# EAGLE library part AM6254ATCGHAALW (library AM6254ATCGHAALW)
Microprocessors - MPU Human-machine-interaction SoC with Arm Cortex-A53-based edge AI and full-HD dual display Source: Datasheet <https://www.ti.com/lit/ds/symlink/am623.pdf?HQS=dis-mous-null-mousermode-dsf-pf-null-wwe&ts=1699949527929&ref_url=https%3A%2F%2Fwww.mouser.jp%2F>
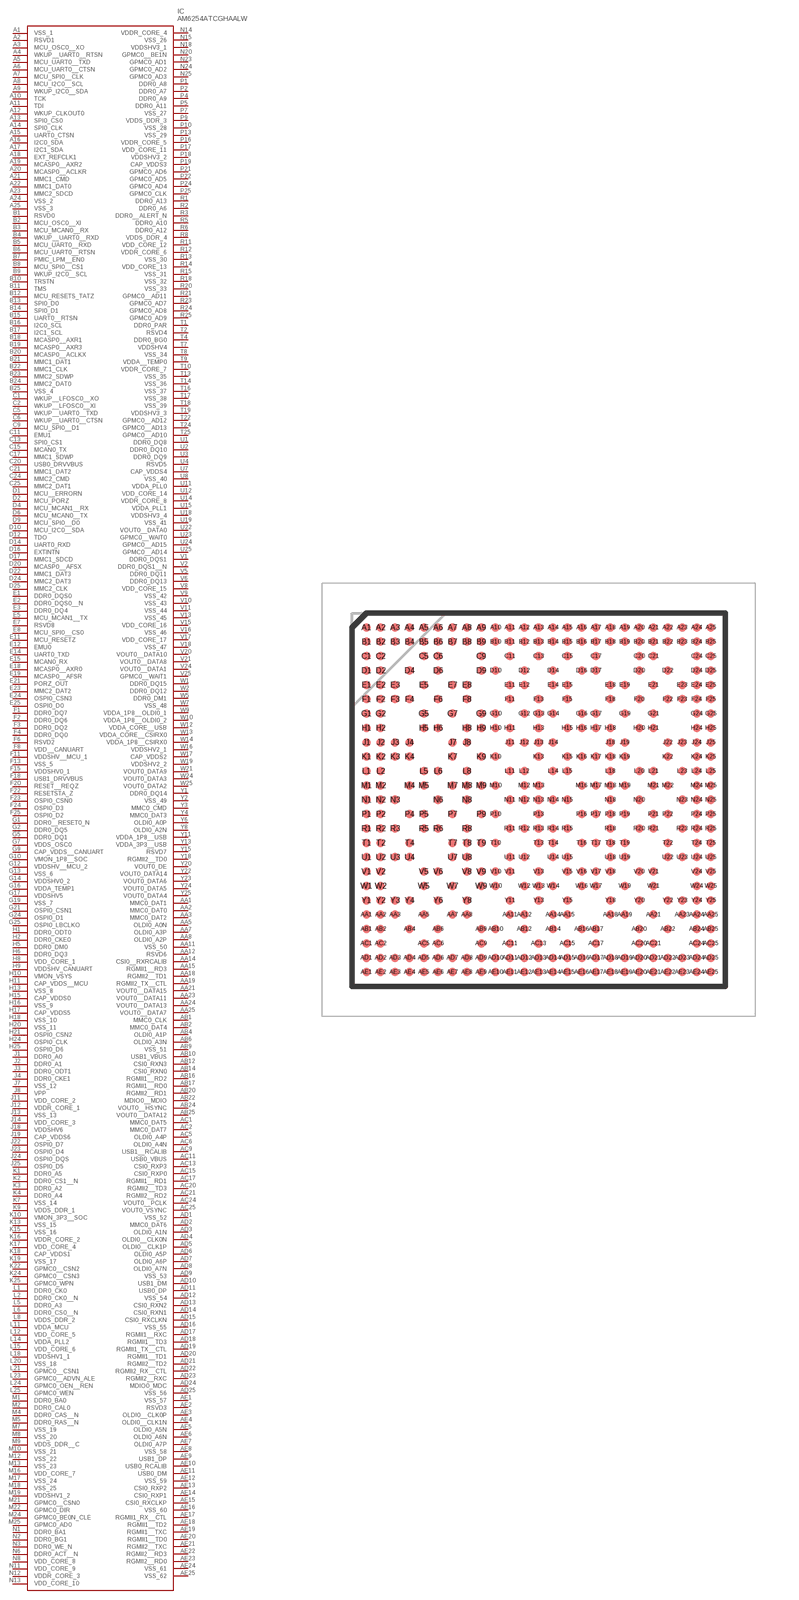
[diagram p0: symbol with the pads of BGA425C50P25X25_1300X1300X89; footprint BGA425C50P25X25_1300X1300X89]

Designator prefix IC

## AM6254ATCGHAALW (Arrow_Part_Number: AM6254ATCGHAALW; Arrow_Price-Stock: https://www.arrow.com/en/products/am6254atcghaalw/texas-instruments?utm_currency=USD&region=nac; Description: Microprocessors - MPU Human-machine-interaction SoC with Arm Cortex-A53-based edge AI and full-HD dual display; Height: 0.89mm; Manufacturer_Name: Texas Instruments; Manufacturer_Part_Number: AM6254ATCGHAALW; Mouser_Part_Number: 595-AM6254ATCGHAALW; Mouser_Price-Stock: https://www.mouser.co.uk/ProductDetail/Texas-Instruments/AM6254ATCGHAALW?qs=3Rah4i%252BhyCEL0QsorpBJwA%3D%3D)  [BGA425C50P25X25_1300X1300X89]
A1  VSS_1
A2  RSVD1
A3  MCU_OSC0__XO
A4  WKUP__UART0__RTSN
A5  MCU_UART0__TXD
A6  MCU_UART0__CTSN
A7  MCU_SPI0__CLK
A8  MCU_I2C0__SCL
A9  WKUP_I2C0__SDA
A10  TCK
A11  TDI
A12  WKUP_CLKOUT0
A13  SPI0_CS0
A14  SPI0_CLK
A15  UART0_CTSN
A16  I2C0_SDA
A17  I2C1_SDA
A18  EXT_REFCLK1
A19  MCASP0__AXR2
A20  MCASP0__ACLKR
A21  MMC1_CMD
A22  MMC1_DAT0
A23  MMC2_SDCD
A24  VSS_2
A25  VSS_3
AA1  MMC0_DAT1
AA2  MMC0_DAT0
AA3  MMC0_DAT2
AA5  OLDI0_A0N
AA7  OLDI0_A3P
AA8  OLDI0_A2P
AA11  VSS_50
AA12  RSVD6
AA14  CSI0__RXRCALIB
AA15  RGMII1__RD3
AA18  RGMII2__TD1
AA19  RGMII2_TX__CTL
AA21  VOUT0__DATA15
AA23  VOUT0__DATA11
AA24  VOUT0__DATA13
AA25  VOUT0__DATA7
AB1  MMC0_CLK
AB2  MMC0_DAT4
AB4  OLDI0_A1P
AB6  OLDI0_A3N
AB9  VSS_51
AB10  USB1_VBUS
AB12  CSI0_RXN3
AB14  CSI0_RXN0
AB16  RGMII1__RD2
AB17  RGMII1__RD0
AB20  RGMII2__RD1
AB22  MDIO0__MDIO
AB24  VOUT0__HSYNC
AB25  VOUT0__DATA12
AC1  MMC0_DAT5
AC2  MMC0_DAT7
AC5  OLDI0_A4P
AC6  OLDI0_A4N
AC9  USB1__RCALIB
AC11  USB0_VBUS
AC13  CSI0_RXP3
AC15  CSI0_RXP0
AC17  RGMII1__RD1
AC20  RGMII2__TD3
AC21  RGMII2__RD2
AC24  VOUT0__PCLK
AC25  VOUT0_VSYNC
AD1  VSS_52
AD2  MMC0_DAT6
AD3  OLDI0_A1N
AD4  OLDI0__CLK0N
AD5  OLDI0__CLK1P
AD6  OLDI0_A5P
AD7  OLDI0_A6P
AD8  OLDI0_A7N
AD9  VSS_53
AD10  USB1_DM
AD11  USB0_DP
AD12  VSS_54
AD13  CSI0_RXN2
AD14  CSI0_RXN1
AD15  CSI0_RXCLKN
AD16  VSS_55
AD17  RGMII1__RXC
AD18  RGMII1__TD3
AD19  RGMII1_TX__CTL
AD20  RGMII1__TD1
AD21  RGMII2__TD2
AD22  RGMII2_RX__CTL
AD23  RGMII2__RXC
AD24  MDIO0_MDC
AD25  VSS_56
AE1  VSS_57
AE2  RSVD3
AE3  OLDI0__CLK0P
AE4  OLDI0__CLK1N
AE5  OLDI0_A5N
AE6  OLDI0_A6N
AE7  OLDI0_A7P
AE8  VSS_58
AE9  USB1_DP
AE10  USB0_RCALIB
AE11  USB0_DM
AE12  VSS_59
AE13  CSI0_RXP2
AE14  CSI0_RXP1
AE15  CSI0_RXCLKP
AE16  VSS_60
AE17  RGMII1_RX__CTL
AE18  RGMII1__TD2
AE19  RGMII1__TXC
AE20  RGMII1__TD0
AE21  RGMII2__TXC
AE22  RGMII2__RD3
AE23  RGMII2__RD0
AE24  VSS_61
AE25  VSS_62
B1  RSVD0
B2  MCU_OSC0__XI
B3  MCU_MCAN0__RX
B4  WKUP__UART0__RXD
B5  MCU_UART0__RXD
B6  MCU_UART0__RTSN
B7  PMIC_LPM__EN0
B8  MCU_SPI0__CS1
B9  WKUP_I2C0__SCL
B10  TRSTN
B11  TMS
B12  MCU_RESETS_TATZ
B13  SPI0_D0
B14  SPI0_D1
B15  UART0__RTSN
B16  I2C0_SCL
B17  I2C1_SCL
B18  MCASP0__AXR1
B19  MCASP0__AXR3
B20  MCASP0__ACLKX
B21  MMC1_DAT1
B22  MMC1_CLK
B23  MMC2_SDWP
B24  MMC2_DAT0
B25  VSS_4
C1  WKUP__LFOSC0__XO
C2  WKUP__LFOSC0__XI
C5  WKUP__UART0__TXD
C6  WKUP__UART0__CTSN
C9  MCU_SPI0__D1
C11  EMU1
C13  SPI0_CS1
C15  MCAN0_TX
C17  MMC1_SDWP
C20  USB0_DRVVBUS
C21  MMC1_DAT2
C24  MMC2_CMD
C25  MMC2_DAT1
D1  MCU__ERRORN
D2  MCU_PORZ
D4  MCU_MCAN1__RX
D6  MCU_MCAN0__TX
D9  MCU_SPI0__D0
D10  MCU_I2C0__SDA
D12  TDO
D14  UART0_RXD
D16  EXTINTN
D17  MMC1_SDCD
D20  MCASP0__AFSX
D22  MMC1_DAT3
D24  MMC2_DAT3
D25  MMC2_CLK
E1  DDR0_DQS0
E2  DDR0_DQS0__N
E3  DDR0_DQ4
E5  MCU_MCAN1__TX
E7  RSVD8
E8  MCU_SPI0__CS0
E11  MCU_RESETZ
E12  EMU0
E14  UART0_TXD
E15  MCAN0_RX
E18  MCASP0__AXR0
E19  MCASP0__AFSR
E21  PORZ_OUT
E23  MMC2_DAT2
E24  OSPI0_CSN3
E25  OSPI0_D0
F1  DDR0_DQ7
F2  DDR0_DQ6
F3  DDR0_DQ2
F4  DDR0_DQ0
F6  RSVD2
F8  VDD__CANUART
F11  VDDSHV__MCU_1
F13  VSS_5
F15  VDDSHV0_1
F18  USB1_DRVVBUS
F20  RESET__REQZ
F22  RESETSTA_Z
F23  OSPI0_CSN0
F24  OSPI0_D3
F25  OSPI0_D2
G1  DDR0__RESET0_N
G2  DDR0_DQ5
G5  DDR0_DQ1
G7  VDDS_OSC0
G9  CAP_VDDS__CANUART
G10  VMON_1P8__SOC
G12  VDDSHV__MCU_2
G13  VSS_6
G14  VDDSHV0_2
G16  VDDA_TEMP1
G17  VDDSHV5
G19  VSS_7
G21  OSPI0_CSN1
G24  OSPI0_D1
G25  OSPI0_LBCLKO
H1  DDR0_ODT0
H2  DDR0_CKE0
H5  DDR0_DM0
H6  DDR0_DQ3
H8  VDD_CORE_1
H9  VDDSHV_CANUART
H10  VMON_VSYS
H11  CAP_VDDS__MCU
H13  VSS_8
H15  CAP_VDDS0
H16  VSS_9
H17  CAP_VDDS5
H18  VSS_10
H20  VSS_11
H21  OSPI0_CSN2
H24  OSPI0_CLK
H25  OSPI0_D6
J1  DDR0_A0
J2  DDR0_A1
J3  DDR0_ODT1
J4  DDR0_CKE1
J7  VSS_12
J8  VPP
J11  VDD_CORE_2
J12  VDDR_CORE_1
J13  VSS_13
J14  VDD_CORE_3
J18  VDDSHV6
J19  CAP_VDDS6
J22  OSPI0_D7
J23  OSPI0_D4
J24  OSPI0_DQS
J25  OSPI0_D5
K1  DDR0_A5
K2  DDR0_CS1__N
K3  DDR0_A2
K4  DDR0_A4
K7  VSS_14
K9  VDDS_DDR_1
K10  VMON_3P3__SOC
K13  VSS_15
K15  VSS_16
K16  VDDR_CORE_2
K17  VDD_CORE_4
K18  CAP_VDDS1
K19  VSS_17
K22  GPMC0__CSN2
K24  GPMC0__CSN3
K25  GPMC0_WPN
L1  DDR0_CK0
L2  DDR0_CK0__N
L5  DDR0_A3
L6  DDR0_CS0__N
L8  VDDS_DDR_2
L11  VDDA_MCU
L12  VDD_CORE_5
L14  VDDA_PLL2
L15  VDD_CORE_6
L18  VDDSHV1_1
L20  VSS_18
L21  GPMC0__CSN1
L23  GPMC0__ADVN_ALE
L24  GPMC0_OEN__REN
L25  GPMC0_WEN
M1  DDR0_BA0
M2  DDR0_CAL0
M4  DDR0_CAS__N
M5  DDR0_RAS__N
M7  VSS_19
M8  VSS_20
M9  VDDS_DDR__C
M10  VSS_21
M12  VSS_22
M13  VSS_23
M16  VDD_CORE_7
M17  VSS_24
M18  VSS_25
M19  VDDSHV1_2
M21  GPMC0__CSN0
M22  GPMC0_DIR
M24  GPMC0_BE0N_CLE
M25  GPMC0_AD0
N1  DDR0_BA1
N2  DDR0_BG1
N3  DDR0_WE_N
N6  DDR0_ACT__N
N8  VDD_CORE_8
N11  VDD_CORE_9
N12  VDDR_CORE_3
N13  VDD_CORE_10
N14  VDDR_CORE_4
N15  VSS_26
N18  VDDSHV3_1
N20  GPMC0__BE1N
N23  GPMC0_AD1
N24  GPMC0_AD2
N25  GPMC0_AD3
P1  DDR0_A8
P2  DDR0_A7
P4  DDR0_A9
P5  DDR0_A11
P7  VSS_27
P9  VDDS_DDR_3
P10  VSS_28
P13  VSS_29
P16  VDDR_CORE_5
P17  VDD_CORE_11
P18  VDDSHV3_2
P19  CAP_VDDS3
P21  GPMC0_AD6
P22  GPMC0_AD5
P24  GPMC0_AD4
P25  GPMC0_CLK
R1  DDR0_A13
R2  DDR0_A6
R3  DDR0__ALERT_N
R5  DDR0_A10
R6  DDR0_A12
R8  VDDS_DDR_4
R11  VDD_CORE_12
R12  VDDR_CORE_6
R13  VSS_30
R14  VDD_CORE_13
R15  VSS_31
R18  VSS_32
R20  VSS_33
R21  GPMC0__AD11
R23  GPMC0_AD7
R24  GPMC0_AD8
R25  GPMC0_AD9
T1  DDR0_PAR
T2  RSVD4
T4  DDR0_BG0
T7  VDDSHV4
T8  VSS_34
T9  VDDA__TEMP0
T10  VDDR_CORE_7
T13  VSS_35
T14  VSS_36
T16  VSS_37
T17  VSS_38
T18  VSS_39
T19  VDDSHV3_3
T22  GPMC0__AD12
T24  GPMC0__AD13
T25  GPMC0__AD10
U1  DDR0_DQ8
U2  DDR0_DQ10
U3  DDR0_DQ9
U4  RSVD5
U7  CAP_VDDS4
U8  VSS_40
U11  VDDA_PLL0
U12  VDD_CORE_14
U14  VDDR_CORE_8
U15  VDDA_PLL1
U18  VDDSHV3_4
U19  VSS_41
U22  VOUT0__DATA0
U23  GPMC0__WAIT0
U24  GPMC0__AD15
U25  GPMC0__AD14
V1  DDR0_DQS1
V2  DDR0_DQS1__N
V5  DDR0_DQ11
V6  DDR0_DQ13
V8  VDD_CORE_15
V9  VSS_42
V10  VSS_43
V11  VSS_44
V13  VSS_45
V15  VDD_CORE_16
V16  VSS_46
V17  VDD_CORE_17
V18  VSS_47
V20  VOUT0__DATA10
V21  VOUT0__DATA8
V24  VOUT0__DATA1
V25  GPMC0__WAIT1
W1  DDR0_DQ15
W2  DDR0_DQ12
W5  DDR0_DM1
W7  VSS_48
W9  VDDA_1P8__OLDI0_1
W10  VDDA_1P8__OLDI0_2
W12  VDDA_CORE__USB
W13  VDDA_CORE__CSIRX0
W14  VDDA_1P8__CSIRX0
W16  VDDSHV2_1
W17  CAP_VDDS2
W19  VDDSHV2_2
W21  VOUT0_DATA9
W24  VOUT0_DATA3
W25  VOUT0_DATA2
Y1  DDR0_DQ14
Y2  VSS_49
Y3  MMC0_CMD
Y4  MMC0_DAT3
Y6  OLDI0_A0P
Y8  OLDI0_A2N
Y11  VDDA_1P8__USB
Y13  VDDA_3P3__USB
Y15  RSVD7
Y18  RGMII2__TD0
Y20  VOUT0_DE
Y22  VOUT0_DATA14
Y23  VOUT0_DATA6
Y24  VOUT0_DATA5
Y25  VOUT0_DATA4

## Footprint BGA425C50P25X25_1300X1300X89 (pad centres in mm)
ALW0425A
smd 0.29 x 0.29: A1 -6,6; A2 -5.5,6; A3 -5,6; A4 -4.5,6; A5 -4,6; A6 -3.5,6; A7 -3,6; A8 -2.5,6; A9 -2,6; A10 -1.5,6; A11 -1,6; A12 -0.5,6; A13 0,6; A14 0.5,6; A15 1,6; A16 1.5,6; A17 2,6; A18 2.5,6; A19 3,6; A20 3.5,6; A21 4,6; A22 4.5,6; A23 5,6; A24 5.5,6; A25 6,6; AA1 -6,-4; AA2 -5.5,-4; AA3 -5,-4; AA5 -4,-4; AA7 -3,-4; AA8 -2.5,-4; AA11 -1,-4; AA12 -0.5,-4; AA14 0.5,-4; AA15 1,-4; AA18 2.5,-4; AA19 3,-4; AA21 4,-4; AA23 5,-4; AA24 5.5,-4; AA25 6,-4; AB1 -6,-4.5; AB2 -5.5,-4.5; AB4 -4.5,-4.5; AB6 -3.5,-4.5; AB9 -2,-4.5; AB10 -1.5,-4.5; AB12 -0.5,-4.5; AB14 0.5,-4.5; AB16 1.5,-4.5; AB17 2,-4.5; AB20 3.5,-4.5; AB22 4.5,-4.5; AB24 5.5,-4.5; AB25 6,-4.5; AC1 -6,-5; AC2 -5.5,-5; AC5 -4,-5; AC6 -3.5,-5; AC9 -2,-5; AC11 -1,-5; AC13 0,-5; AC15 1,-5; AC17 2,-5; AC20 3.5,-5; AC21 4,-5; AC24 5.5,-5; AC25 6,-5; AD1 -6,-5.5; AD2 -5.5,-5.5; AD3 -5,-5.5; AD4 -4.5,-5.5; AD5 -4,-5.5; AD6 -3.5,-5.5; AD7 -3,-5.5; AD8 -2.5,-5.5; AD9 -2,-5.5; AD10 -1.5,-5.5; AD11 -1,-5.5; AD12 -0.5,-5.5; AD13 0,-5.5; AD14 0.5,-5.5; AD15 1,-5.5; AD16 1.5,-5.5; AD17 2,-5.5; AD18 2.5,-5.5; AD19 3,-5.5; AD20 3.5,-5.5; AD21 4,-5.5; AD22 4.5,-5.5; AD23 5,-5.5; AD24 5.5,-5.5; AD25 6,-5.5; AE1 -6,-6; AE2 -5.5,-6; AE3 -5,-6; AE4 -4.5,-6; AE5 -4,-6; AE6 -3.5,-6; AE7 -3,-6; AE8 -2.5,-6; AE9 -2,-6; AE10 -1.5,-6; AE11 -1,-6; AE12 -0.5,-6; AE13 0,-6; AE14 0.5,-6; AE15 1,-6; AE16 1.5,-6; AE17 2,-6; AE18 2.5,-6; AE19 3,-6; AE20 3.5,-6; AE21 4,-6; AE22 4.5,-6; AE23 5,-6; AE24 5.5,-6; AE25 6,-6; B1 -6,5.5; B2 -5.5,5.5; B3 -5,5.5; B4 -4.5,5.5; B5 -4,5.5; B6 -3.5,5.5; B7 -3,5.5; B8 -2.5,5.5; B9 -2,5.5; B10 -1.5,5.5; B11 -1,5.5; B12 -0.5,5.5; B13 0,5.5; B14 0.5,5.5; B15 1,5.5; B16 1.5,5.5; B17 2,5.5; B18 2.5,5.5; B19 3,5.5; B20 3.5,5.5; B21 4,5.5; B22 4.5,5.5; B23 5,5.5; B24 5.5,5.5; B25 6,5.5; C1 -6,5; C2 -5.5,5; C5 -4,5; C6 -3.5,5; C9 -2,5; C11 -1,5; C13 0,5; C15 1,5; C17 2,5; C20 3.5,5; C21 4,5; C24 5.5,5; C25 6,5; D1 -6,4.5; D2 -5.5,4.5; D4 -4.5,4.5; D6 -3.5,4.5; D9 -2,4.5; D10 -1.5,4.5; D12 -0.5,4.5; D14 0.5,4.5; D16 1.5,4.5; D17 2,4.5; D20 3.5,4.5; D22 4.5,4.5; D24 5.5,4.5; D25 6,4.5; E1 -6,4; E2 -5.5,4; E3 -5,4; E5 -4,4; E7 -3,4; E8 -2.5,4; E11 -1,4; E12 -0.5,4; E14 0.5,4; E15 1,4; E18 2.5,4; E19 3,4; E21 4,4; E23 5,4; E24 5.5,4; E25 6,4; F1 -6,3.5; F2 -5.5,3.5; F3 -5,3.5; F4 -4.5,3.5; F6 -3.5,3.5; F8 -2.5,3.5; F11 -1,3.5; F13 0,3.5; F15 1,3.5; F18 2.5,3.5; F20 3.5,3.5; F22 4.5,3.5; F23 5,3.5; F24 5.5,3.5; F25 6,3.5; G1 -6,3; G2 -5.5,3; G5 -4,3; G7 -3,3; G9 -2,3; G10 -1.5,3; G12 -0.5,3; G13 0,3; G14 0.5,3; G16 1.5,3; G17 2,3; G19 3,3; G21 4,3; G24 5.5,3; G25 6,3; H1 -6,2.5; H2 -5.5,2.5; H5 -4,2.5; H6 -3.5,2.5; H8 -2.5,2.5; H9 -2,2.5; H10 -1.5,2.5; H11 -1,2.5; H13 0,2.5; H15 1,2.5; H16 1.5,2.5; H17 2,2.5; H18 2.5,2.5; H20 3.5,2.5; H21 4,2.5; H24 5.5,2.5; H25 6,2.5; J1 -6,2; J2 -5.5,2; J3 -5,2; J4 -4.5,2; J7 -3,2; J8 -2.5,2; J11 -1,2; J12 -0.5,2; J13 0,2; J14 0.5,2; J18 2.5,2; J19 3,2; J22 4.5,2; J23 5,2; J24 5.5,2; J25 6,2; K1 -6,1.5; K2 -5.5,1.5; K3 -5,1.5; K4 -4.5,1.5; K7 -3,1.5; K9 -2,1.5; K10 -1.5,1.5; K13 0,1.5; K15 1,1.5; K16 1.5,1.5; K17 2,1.5; K18 2.5,1.5; K19 3,1.5; K22 4.5,1.5; K24 5.5,1.5; K25 6,1.5; L1 -6,1; L2 -5.5,1; L5 -4,1; L6 -3.5,1; L8 -2.5,1; L11 -1,1; L12 -0.5,1; L14 0.5,1; L15 1,1; L18 2.5,1; L20 3.5,1; L21 4,1; L23 5,1; L24 5.5,1; L25 6,1; M1 -6,0.5; M2 -5.5,0.5; M4 -4.5,0.5; M5 -4,0.5; M7 -3,0.5; M8 -2.5,0.5; M9 -2,0.5; M10 -1.5,0.5; M12 -0.5,0.5; M13 0,0.5; M16 1.5,0.5; M17 2,0.5; M18 2.5,0.5; M19 3,0.5; M21 4,0.5; M22 4.5,0.5; M24 5.5,0.5; M25 6,0.5; N1 -6,0; N2 -5.5,0; N3 -5,0; N6 -3.5,0; N8 -2.5,0; N11 -1,0; N12 -0.5,0; N13 0,0; N14 0.5,0; N15 1,0; N18 2.5,0; N20 3.5,0; N23 5,0; N24 5.5,0; N25 6,0; P1 -6,-0.5; P2 -5.5,-0.5; P4 -4.5,-0.5; P5 -4,-0.5; P7 -3,-0.5; P9 -2,-0.5; P10 -1.5,-0.5; P13 0,-0.5; P16 1.5,-0.5; P17 2,-0.5; P18 2.5,-0.5; P19 3,-0.5; P21 4,-0.5; P22 4.5,-0.5; P24 5.5,-0.5; P25 6,-0.5; R1 -6,-1; R2 -5.5,-1; R3 -5,-1; R5 -4,-1; R6 -3.5,-1; R8 -2.5,-1; R11 -1,-1; R12 -0.5,-1; R13 0,-1; R14 0.5,-1; R15 1,-1; R18 2.5,-1; R20 3.5,-1; R21 4,-1; R23 5,-1; R24 5.5,-1; R25 6,-1; T1 -6,-1.5; T2 -5.5,-1.5; T4 -4.5,-1.5; T7 -3,-1.5; T8 -2.5,-1.5; T9 -2,-1.5; T10 -1.5,-1.5; T13 0,-1.5; T14 0.5,-1.5; T16 1.5,-1.5; T17 2,-1.5; T18 2.5,-1.5; T19 3,-1.5; T22 4.5,-1.5; T24 5.5,-1.5; T25 6,-1.5; U1 -6,-2; U2 -5.5,-2; U3 -5,-2; U4 -4.5,-2; U7 -3,-2; U8 -2.5,-2; U11 -1,-2; U12 -0.5,-2; U14 0.5,-2; U15 1,-2; U18 2.5,-2; U19 3,-2; U22 4.5,-2; U23 5,-2; U24 5.5,-2; U25 6,-2; V1 -6,-2.5; V2 -5.5,-2.5; V5 -4,-2.5; V6 -3.5,-2.5; V8 -2.5,-2.5; V9 -2,-2.5; V10 -1.5,-2.5; V11 -1,-2.5; V13 0,-2.5; V15 1,-2.5; V16 1.5,-2.5; V17 2,-2.5; V18 2.5,-2.5; V20 3.5,-2.5; V21 4,-2.5; V24 5.5,-2.5; V25 6,-2.5; W1 -6,-3; W2 -5.5,-3; W5 -4,-3; W7 -3,-3; W9 -2,-3; W10 -1.5,-3; W12 -0.5,-3; W13 0,-3; W14 0.5,-3; W16 1.5,-3; W17 2,-3; W19 3,-3; W21 4,-3; W24 5.5,-3; W25 6,-3; Y1 -6,-3.5; Y2 -5.5,-3.5; Y3 -5,-3.5; Y4 -4.5,-3.5; Y6 -3.5,-3.5; Y8 -2.5,-3.5; Y11 -1,-3.5; Y13 0,-3.5; Y15 1,-3.5; Y18 2.5,-3.5; Y20 3.5,-3.5; Y22 4.5,-3.5; Y23 5,-3.5; Y24 5.5,-3.5; Y25 6,-3.5